# EAGLE library part 23K256 (library 029000100  -  gKEagleLibrary)
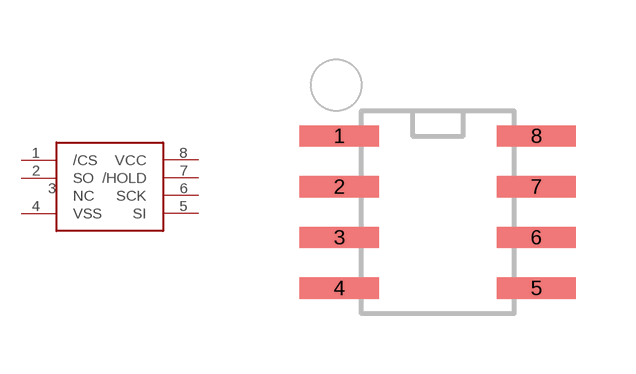
[diagram p41: symbol with the pads of SOIC127P600X175-8N; footprint SOIC127P600X175-8N]

Designator prefix -

## 23K256  [SOIC127P600X175-8N]
1  /CS
2  SO
3  NC  nc
4  VSS
5  SI
6  SCK
7  /HOLD
8  VCC

## Footprint SOIC127P600X175-8N (pad centres in mm)
smd 1.981 x 0.533: 1 -2.464,1.905; 2 -2.464,0.635; 3 -2.464,-0.635; 4 -2.464,-1.905; 5 2.464,-1.905; 6 2.464,-0.635; 7 2.464,0.635; 8 2.464,1.905